# Altium schematic symbol library CL21A475KAQNNNE.SchLib: 2 symbols
Pins are listed as number, name and electrical type; pins without a type are passive.

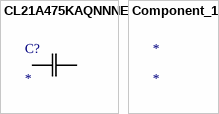
[diagram p0: symbols CL21A475KAQNNNE to Component_1]

## CL21A475KAQNNNE
designator C?
No Description Available; Mfr_Name: Samsung
footprint CAP_CL21_SAM
pins: 1, 2

## Component_1
designator *